# EAGLE library part LM5575MH (library LM5575)
Step-Down Switching Regulator
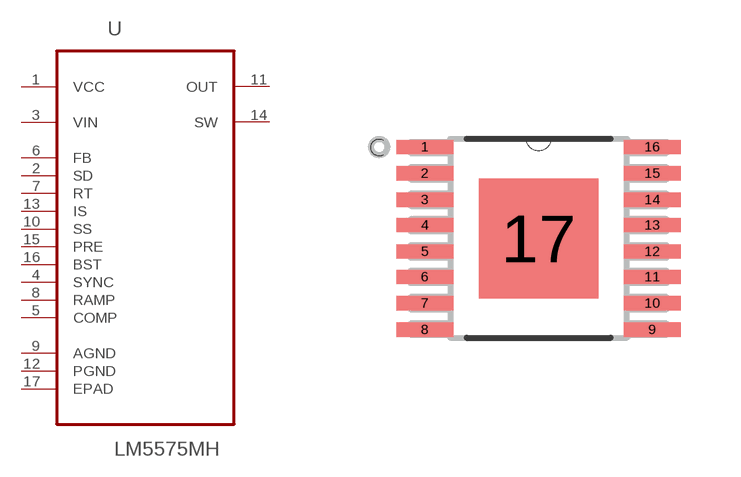
[diagram p0: symbol with the pads of SOP65P640X110-17N; footprint SOP65P640X110-17N]

Designator prefix U

## LM5575MH (MPN: LM5575MH; OC_FARNELL: 1325420; OC_NEWARK: 32M1271; PACKAGE: TSSOP-16; SUPPLIER: National)  [SOP65P640X110-17N]
1  VCC  pwr
2  SD  in
3  VIN  in
4  SYNC  in
5  COMP  in
6  FB  in
7  RT  in
8  RAMP  in
9  AGND  pas
10  SS  in
11  OUT  out
12  PGND  pas
13  IS  in
14  SW  out
15  PRE  in
16  BST  in
17  EPAD  pas

## Footprint SOP65P640X110-17N (pad centres in mm)
smd 1.422 x 0.356: 1 -2.845,2.286; 2 -2.845,1.626; 3 -2.845,0.965; 4 -2.845,0.33; 5 -2.845,-0.33; 6 -2.845,-0.965; 7 -2.845,-1.626; 8 -2.845,-2.286; 9 2.845,-2.286; 10 2.845,-1.626; 11 2.845,-0.965; 12 2.845,-0.33; 13 2.845,0.33; 14 2.845,0.965; 15 2.845,1.626; 16 2.845,2.286
smd 2.997 x 2.997: 17 0,0